# Altium schematic symbol library TPS63000IDRCRQ1.SchLib: 1 symbol
Pins are listed as number, name and electrical type; pins without a type are passive.

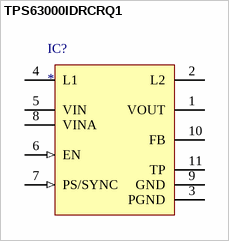
[diagram p0: symbol TPS63000IDRCRQ1]

## TPS63000IDRCRQ1
designator IC?
Buck-Boost Voltage Converter with 1.8 to 5.5 V Input and 1.2 to 5.5 V Output, -40 to 85 degC, 10-Pin SON (DRC), Green (RoHS & no Sb/Br); Manufacturer: Texas Instruments; PartNumber: TPS63000IDRCRQ1; Vout(Min)(V): 1.2; Vin(Max)(V): 5.5; Switching Frequency(Max)(kHz): 1500; SubFamily: Buck-Boost Regulator; Dynamic Voltage Scaling: TRUE; Regulated Outputs(#): 1; Iq(Typ)(mA): 0.04; Vin(Min)(V): 1.8; ComponentLink1Description: Datasheet; PackageDescription: 10-Pin Plastic Small Outline No-Lead, 3 x 3 x 1 mm Body, 0.5 mm Pitch, Exposed Pad; Iout(Max)(A): 1.2; Topology: Buck-Boost; Vout(Max)(V): 5.5; PackageReference: DRC0010A; Synchronous Rectification: TRUE; Mounting Technology: Surface Mount; ComponentLink2Description: Package Specification; DatasheetVersion: SLVS968; ComponentLink2URL: http://www.ti.com/litv/pdf/mpds117k; ComponentLink1URL: http://www.ti.com/general/docs/lit/getliterature.tsp?genericPartNumber=TPS63000-Q1&fileType=pdf; PackageVersion: revL, Sep-2011; Eco-Plan: Green (RoHS & no Sb/Br)
footprint DRC0010A_V (SON, 10-Leads, Body 3x3mm, Pitch 0.5mm, Thermal Pad 2.4x1.65mm, TI Recommended)
pins: 1 VOUT (power) "Buck-boost converter output", 2 L2 "Connection for inductor", 3 PGND (power) "Power ground", 4 L1 "Connection for inductor", 5 VIN (power) "Supply voltage for power stage", 6 EN (in) "Enable input. 1 = enabled, 0 = disabled", 7 PS/SYNC (in) "Enable / disable power save mode. 1 = disabled, = 0 enabled. Clock signal for synchronization.", 8 VINA (power) "Supply voltage for control stage", 9 GND (power) "Control / logic ground", 10 FB "Voltage feedback of adjustable version", 11 TP (power) "Must be soldered to the PCB to achieve appropriate power dissipation. Connect to PGND."